# EAGLE library part I__4549 (library ..SMD)
SUCCESSIVE APPROXIMATION REGISTER
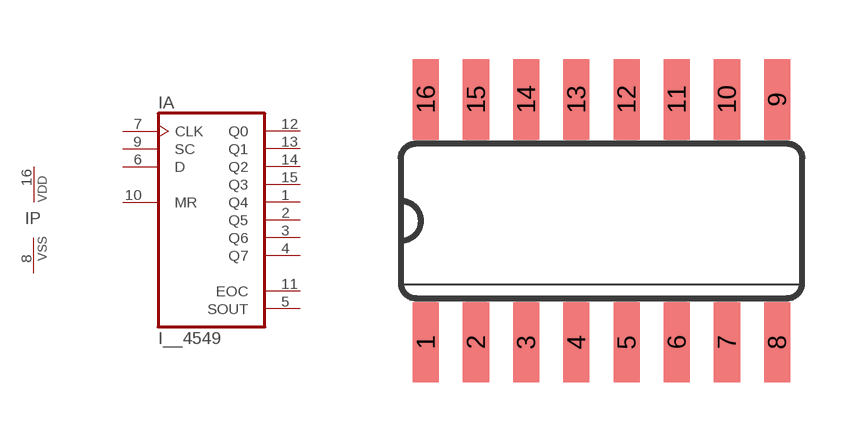
[diagram p124: symbol with the pads of SO16; footprint SO16]

Designator prefix I; gates A=4549 P=PWRN

## I__4549D  [SO16]
1  A:Q4  out
2  A:Q5  out
3  A:Q6  out
4  A:Q7  out
5  A:SOUT  out
6  A:D  in
7  A:CLK  in
8  P:VSS  pwr
9  A:SC  in
10  A:MR  in
11  A:EOC  out
12  A:Q0  out
13  A:Q1  out
14  A:Q2  out
15  A:Q3  out
16  P:VDD  pwr

## Footprint SO16 (pad centres in mm)
Small Outline Package 16
smd 0.66 x 2.032: 1 -4.445,-3.073; 2 -3.175,-3.073; 3 -1.905,-3.073; 4 -0.635,-3.073; 5 0.635,-3.073; 6 1.905,-3.073; 7 3.175,-3.073; 8 4.445,-3.073; 9 4.445,3.073; 10 3.175,3.073; 11 1.905,3.073; 12 0.635,3.073; 13 -0.635,3.073; 14 -1.905,3.073; 15 -3.175,3.073; 16 -4.445,3.073